# EAGLE library part EXB-28V470JX (library Resistor Array)
RES ARRAY 4 RES 47 OHM 0804 Manufacturer's datasheet <https://industrial.panasonic.com/cdbs/www-data/pdf/AOC0000/AOC0000C14.pdf>
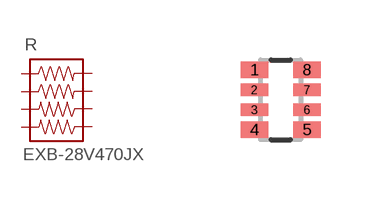
[diagram p5: symbol with the pads of EXB-28V470JX; footprint EXB-28V470JX]

Designator prefix R

## EXB-28V470JX (CREATED_BY: PCBLayout.com; DIGIKEY_PARTNO: Y7470TR-ND; MANUFACTURER: Panasonic Electronic Components; MPN: EXB-28V470JX; PACKAGE: 0804)  [EXB-28V470JX]
1  1  pas
2  2  pas
3  3  pas
4  4  pas
5  5  pas
6  6  pas
7  7  pas
8  8  pas

## Footprint EXB-28V470JX (pad centres in mm)
8-Chiparray 2-Side Convex, 0.50 mm pitch, 2.00 X 1.00 X 0.35 mm body 8-pin Chiparray 2-Side Convex package with 0.50 mm pitch with body size 2.00 X 1.00 X 0.35 mm
smd 0.692 x 0.422: 1 -0.66,0.75; 4 -0.66,-0.75; 5 0.66,-0.75; 8 0.66,0.75
smd 0.692 x 0.322: 2 -0.66,0.25; 3 -0.66,-0.25; 6 0.66,-0.25; 7 0.66,0.25